# Altium footprint library SMD-Q  0607.PcbLib: 73 footprints (part 1 of 5)
Each footprint in its own frame and in the unit in brackets; x right, y up, seen from the top. Pads: shape width x height; smd on the part's side, far side on the other; paste and mask are expansions set on the pad; w line width, h text height; cw(c..) or ccw(c..) is an arc to the next point about the centre after c.
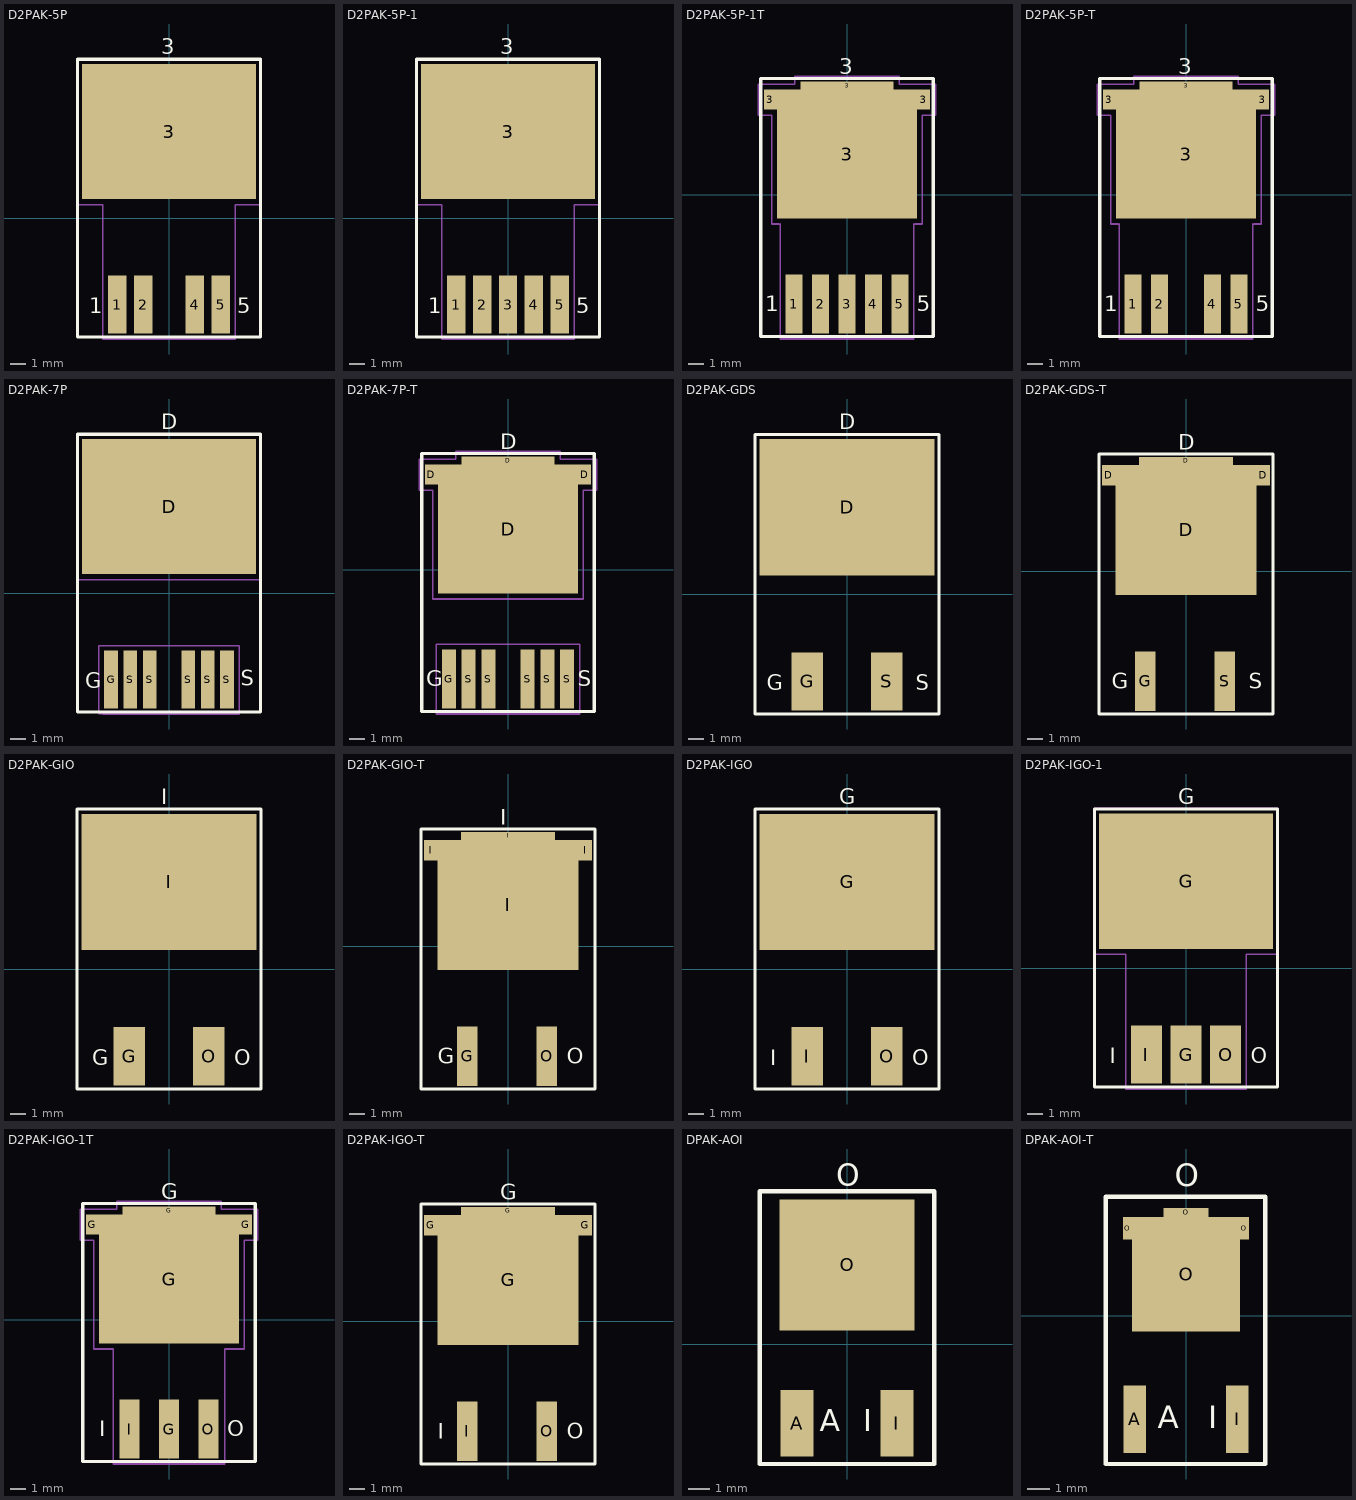
[diagram p0: the footprints below, top view; thin cyan lines are the x and y axes]

## D2PAK-5P [mm]
height 4.83
pads (5):
  rect 1.2x3.81 smd: 1(-3.4,-5.687) 2(-1.7,-5.687) 4(1.7,-5.687) 5(3.4,-5.687)
  rect 11.43x8.89 smd: 3(0,5.688)
Top Overlay:
  lines w0.2: -6,-7.812 -6,10.438 6,10.438 6,-7.812 -6,-7.812
  text "3" at -0.508,10.768 h1
  text "1" at -5.25,-6.25 h1
  text "5" at 4.5,-6.25 h1
Mechanical 16:
  lines w0.1: -6.065,0.893 -4.35,0.893 -4.35,-7.943 4.35,-7.943 4.35,0.893 6.065,0.893 6.065,10.483 -6.065,10.483 -6.065,0.893

## D2PAK-5P-1 [mm] "TO-263"
height 4.83
pads (6):
  rect 1.2x3.81 smd: 1(-3.4,-5.687) 2(-1.7,-5.687) 3(0,-5.687) 4(1.7,-5.687) 5(3.4,-5.687)
  rect 11.43x8.89 smd: 3(0,5.688)
Top Overlay:
  lines w0.2: -6,-7.812 6,-7.812 6,10.438 -6,10.438 -6,-7.812
  text "5" at 4.5,-6.25 h1
  text "1" at -5.25,-6.25 h1
  text "3" at -0.508,10.768 h1
Mechanical 16:
  lines w0.1: -6.065,0.893 -6.065,10.483 6.065,10.483 6.065,0.893 4.35,0.893 4.35,-7.943 -4.35,-7.943 -4.35,0.893 -6.065,0.893

## D2PAK-5P-1T [mm] "TO-263"
height 4.83
pads (9):
  rect 1.1x3.8 smd: 1(-3.4,-7.025) 2(-1.7,-7.025) 3(0,-7.025) 4(1.7,-7.025) 5(3.4,-7.025)
  rect 0.85x1.3 smd: 3(-4.925,6.125) 3(4.925,6.125)
  rect 9x8.3 smd: 3(0,2.625)
  rect 6x0.5 smd: 3(0,7.025)
Top Overlay:
  lines w0.2: -5.55,-9.125 -5.55,7.475 5.55,7.475 5.55,-9.125 -5.55,-9.125
  text "3" at -0.5,7.75 h1
  text "1" at -5.25,-7.5 h1
  text "5" at 4.5,-7.5 h1
Mechanical 15:
  lines w0.1: -5.7,5.125 -4.85,5.125 -4.85,-1.875 -4.35,-1.875 ; -5.7,5.125 -5.7,7.125 -3.35,7.125 -3.35,7.625 3.35,7.625 3.35,7.125 5.7,7.125 5.7,5.125 4.85,5.125 4.85,-1.875 4.35,-1.875 ; -4.3,-1.875 -4.3,-9.275 4.3,-9.275 4.3,-1.875

## D2PAK-5P-T [mm]
height 4.83
pads (8):
  rect 1.1x3.8 smd: 1(-3.4,-7.025) 2(-1.7,-7.025) 4(1.7,-7.025) 5(3.4,-7.025)
  rect 0.85x1.3 smd: 3(-4.925,6.125) 3(4.925,6.125)
  rect 9x8.3 smd: 3(0,2.625)
  rect 6x0.5 smd: 3(0,7.025)
Top Overlay:
  lines w0.2: -5.55,-9.125 5.55,-9.125 5.55,7.475 -5.55,7.475 -5.55,-9.125
  text "5" at 4.5,-7.5 h1
  text "1" at -5.25,-7.5 h1
  text "3" at -0.5,7.75 h1
Mechanical 15:
  lines w0.1: -5.7,5.125 -4.85,5.125 -4.85,-1.875 -4.35,-1.875 ; -5.7,5.125 -5.7,7.125 -3.35,7.125 -3.35,7.625 3.35,7.625 3.35,7.125 5.7,7.125 5.7,5.125 4.85,5.125 4.85,-1.875 4.35,-1.875 ; -4.3,-1.875 -4.3,-9.275 4.3,-9.275 4.3,-1.875

## D2PAK-7P [mm] "TO-263"
height 4.57
pads (7):
  rect 11.43x8.89 smd: D(0,5.687)
  rect 0.9x3.81 smd: G(-3.81,-5.687) S(-2.54,-5.687) S(-1.27,-5.687) S(1.27,-5.687) S(2.54,-5.687) S(3.81,-5.687)
Top Overlay:
  lines w0.2: -6,-7.812 6,-7.812 6,10.438 -6,10.438 -6,-7.812
  text "S" at 4.7,-6.1 h1
  text "G" at -5.5,-6.25 h1
  text "D" at -0.508,10.767 h1
Mechanical 16:
  lines w0.1: -4.35,-7.943 4.61,-7.943 ; -3.01,-7.912 -4.61,-7.912 -4.61,-3.463 4.61,-3.463 4.61,-7.912 ; -6.065,0.893 -6.065,10.483 6.065,10.483 6.065,0.893 -6.065,0.893

## D2PAK-7P-T [mm] "TO-263"
height 4.57
pads (10):
  rect 0.85x1.3 smd: D(-4.925,6.125) D(4.925,6.125)
  rect 9x8.3 smd: D(0,2.625)
  rect 6x0.5 smd: D(0,7.025)
  rect 0.9x3.8 smd: G(-3.81,-7.025) S(-2.54,-7.025) S(-1.27,-7.025) S(1.27,-7.025) S(2.54,-7.025) S(3.81,-7.025)
Top Overlay:
  lines w0.2: -5.55,-9.125 5.55,-9.125 5.55,7.475 -5.55,7.475 -5.55,-9.125
  text "S" at 4.5,-7.5 h1
  text "G" at -5.25,-7.5 h1
  text "D" at -0.5,7.75 h1
Mechanical 15:
  lines w0.1: -5.7,5.125 -4.85,5.125 -4.85,-1.875 4.85,-1.875 4.85,5.125 5.7,5.125 5.7,7.125 3.35,7.125 3.35,7.625 -3.35,7.625 -3.35,7.125 -5.7,7.125 -5.7,5.125 ; -4.3,-9.275 4.61,-9.275 4.61,-4.775 -4.61,-4.775 -4.61,-9.275 -3.01,-9.275

## D2PAK-GDS [mm]
height 4.83
pads (3):
  rect 11.43x8.89 smd: D(0,5.688)
  rect 2.03x3.81 smd: G(-2.595,-5.688) S(2.595,-5.688)
Top Overlay:
  lines w0.2: -6,-7.812 6,-7.812 6,10.438 -6,10.438 -6,-7.812
  text "S" at 4.5,-6.25 h1
  text "G" at -5.25,-6.25 h1
  text "D" at -0.508,10.767 h1

## D2PAK-GDS-T [mm]
height 4.83
pads (6):
  rect 0.85x1.3 smd: D(-4.925,6.125) D(4.925,6.125)
  rect 9x8.3 smd: D(0,2.625)
  rect 6x0.5 smd: D(0,7.025)
  rect 1.3x3.8 smd: G(-2.595,-7.025) S(2.485,-7.025)
Top Overlay:
  lines w0.2: -5.55,-9.125 -5.55,7.475 5.55,7.475 5.55,-9.125 -5.55,-9.125
  text "D" at -0.5,7.75 h1
  text "G" at -4.75,-7.5 h1
  text "S" at 4,-7.5 h1

## D2PAK-GIO [mm] "79XX"
height 4.83
pads (3):
  rect 2.03x3.81 smd: G(-2.595,-5.687) O(2.595,-5.687)
  rect 11.43x8.89 smd: I(0,5.687)
Top Overlay:
  lines w0.2: -6,-7.812 -6,10.438 6,10.438 6,-7.812 -6,-7.812
  text "I" at -0.5,10.75 h1
  text "G" at -5,-6.25 h1
  text "O" at 4.25,-6.25 h1

## D2PAK-GIO-T [mm] "79XX"
height 4.83
pads (6):
  rect 1.3x3.8 smd: G(-2.595,-7.025) O(2.485,-7.025)
  rect 0.85x1.3 smd: I(-4.925,6.125) I(4.925,6.125)
  rect 9x8.3 smd: I(0,2.625)
  rect 6x0.5 smd: I(0,7.025)
Top Overlay:
  lines w0.2: -5.55,-9.125 5.55,-9.125 5.55,7.475 -5.55,7.475 -5.55,-9.125
  text "O" at 3.75,-7.5 h1
  text "G" at -4.5,-7.5 h1
  text "I" at -0.5,7.75 h1

## D2PAK-IGO [mm] "78XX"
height 4.83
pads (3):
  rect 11.43x8.89 smd: G(0,5.687)
  rect 2.03x3.81 smd: I(-2.595,-5.687) O(2.595,-5.687)
Top Overlay:
  lines w0.2: -6,-7.812 -6,10.438 6,10.438 6,-7.812 -6,-7.812
  text "G" at -0.5,10.75 h1
  text "I" at -5,-6.25 h1
  text "O" at 4.25,-6.25 h1

## D2PAK-IGO-1 [mm] "78XX"
height 4.83
pads (4):
  rect 2.03x3.81 smd: G(0,-5.687) I(-2.595,-5.687) O(2.595,-5.687)
  rect 11.43x8.89 smd: G(0,5.687)
Top Overlay:
  lines w0.2: -6,-7.812 6,-7.812 6,10.438 -6,10.438 -6,-7.812
  text "O" at 4.25,-6.25 h1
  text "I" at -5,-6.25 h1
  text "G" at -0.5,10.75 h1
Mechanical 16:
  lines w0.1: -6.065,0.893 -6.065,10.483 6.065,10.483 6.065,0.893 3.96,0.893 3.96,-7.943 -3.96,-7.943 -3.96,0.893 -6.065,0.893

## D2PAK-IGO-1T [mm] "78XX"
height 4.83
pads (7):
  rect 0.85x1.3 smd: G(-4.925,6.125) G(4.925,6.125)
  rect 1.3x3.8 smd: G(0,-7.025) I(-2.54,-7.025) O(2.54,-7.025)
  rect 9x8.3 smd: G(0,2.625)
  rect 6x0.5 smd: G(0,7.025)
Top Overlay:
  lines w0.2: -5.55,-9.125 5.55,-9.125 5.55,7.475 -5.55,7.475 -5.55,-9.125
  text "O" at 3.75,-7.5 h1
  text "I" at -4.5,-7.5 h1
  text "G" at -0.5,7.75 h1
Mechanical 15:
  lines w0.1: -5.7,5.125 -4.85,5.125 -4.85,-1.875 -3.595,-1.875 -3.595,-9.275 3.595,-9.275 3.595,-1.875 4.85,-1.875 4.85,5.125 5.7,5.125 ; -5.7,5.125 -5.7,7.125 -3.35,7.125 -3.35,7.625 3.35,7.625 3.35,7.125 5.7,7.125 5.7,5.125

## D2PAK-IGO-T [mm] "78XX"
height 4.83
pads (6):
  rect 0.85x1.3 smd: G(-4.925,6.125) G(4.925,6.125)
  rect 9x8.3 smd: G(0,2.625)
  rect 6x0.5 smd: G(0,7.025)
  rect 1.3x3.8 smd: I(-2.595,-7.025) O(2.485,-7.025)
Top Overlay:
  lines w0.2: -5.55,-9.125 5.55,-9.125 5.55,7.475 -5.55,7.475 -5.55,-9.125
  text "O" at 3.75,-7.5 h1
  text "I" at -4.5,-7.5 h1
  text "G" at -0.5,7.75 h1

## DPAK-AOI [mil]
height 183.07
pads (3):
  rect 60x120 smd: A(-90,-142.72) I(90,-142.72)
  rect 244.09x236.22 smd: O(0,142.72)
Top Overlay:
  lines w7.87: -157.48,-216.54 -157.48,275.59 157.48,275.59 157.48,-216.54 -157.48,-216.54
  text "I" at 29.53,-157.48 h39.37
  text "A" at -49.21,-157.48 h39.37
  text "O" at -19.68,285.43 h39.37

## DPAK-AOI-T [mm]
height 4.65
pads (6):
  rect 1x3 smd: A(-2.285,-4.6) I(2.285,-4.6)
  rect 0.4x1 smd: O(-2.6,3.9) O(2.6,3.9)
  rect 4.8x5.1 smd: O(0,1.85)
  rect 2x0.4 smd: O(0,4.6)
Top Overlay:
  lines w0.2: -3.575,-6.6 -3.575,5.3 3.525,5.3 3.525,-6.6 -3.575,-6.6
  text "I" at 1,-5 h1
  text "A" at -1.25,-5 h1
  text "O" at -0.5,5.75 h1